# Altium footprint library CornellBajaLibrary.PcbLib: 134 footprints (part 5 of 9)
Each footprint in its own frame and in the unit in brackets; x right, y up, seen from the top. Pads: shape width x height; smd on the part's side, far side on the other; paste and mask are expansions set on the pad; w line width, h text height; cw(c..) or ccw(c..) is an arc to the next point about the centre after c.
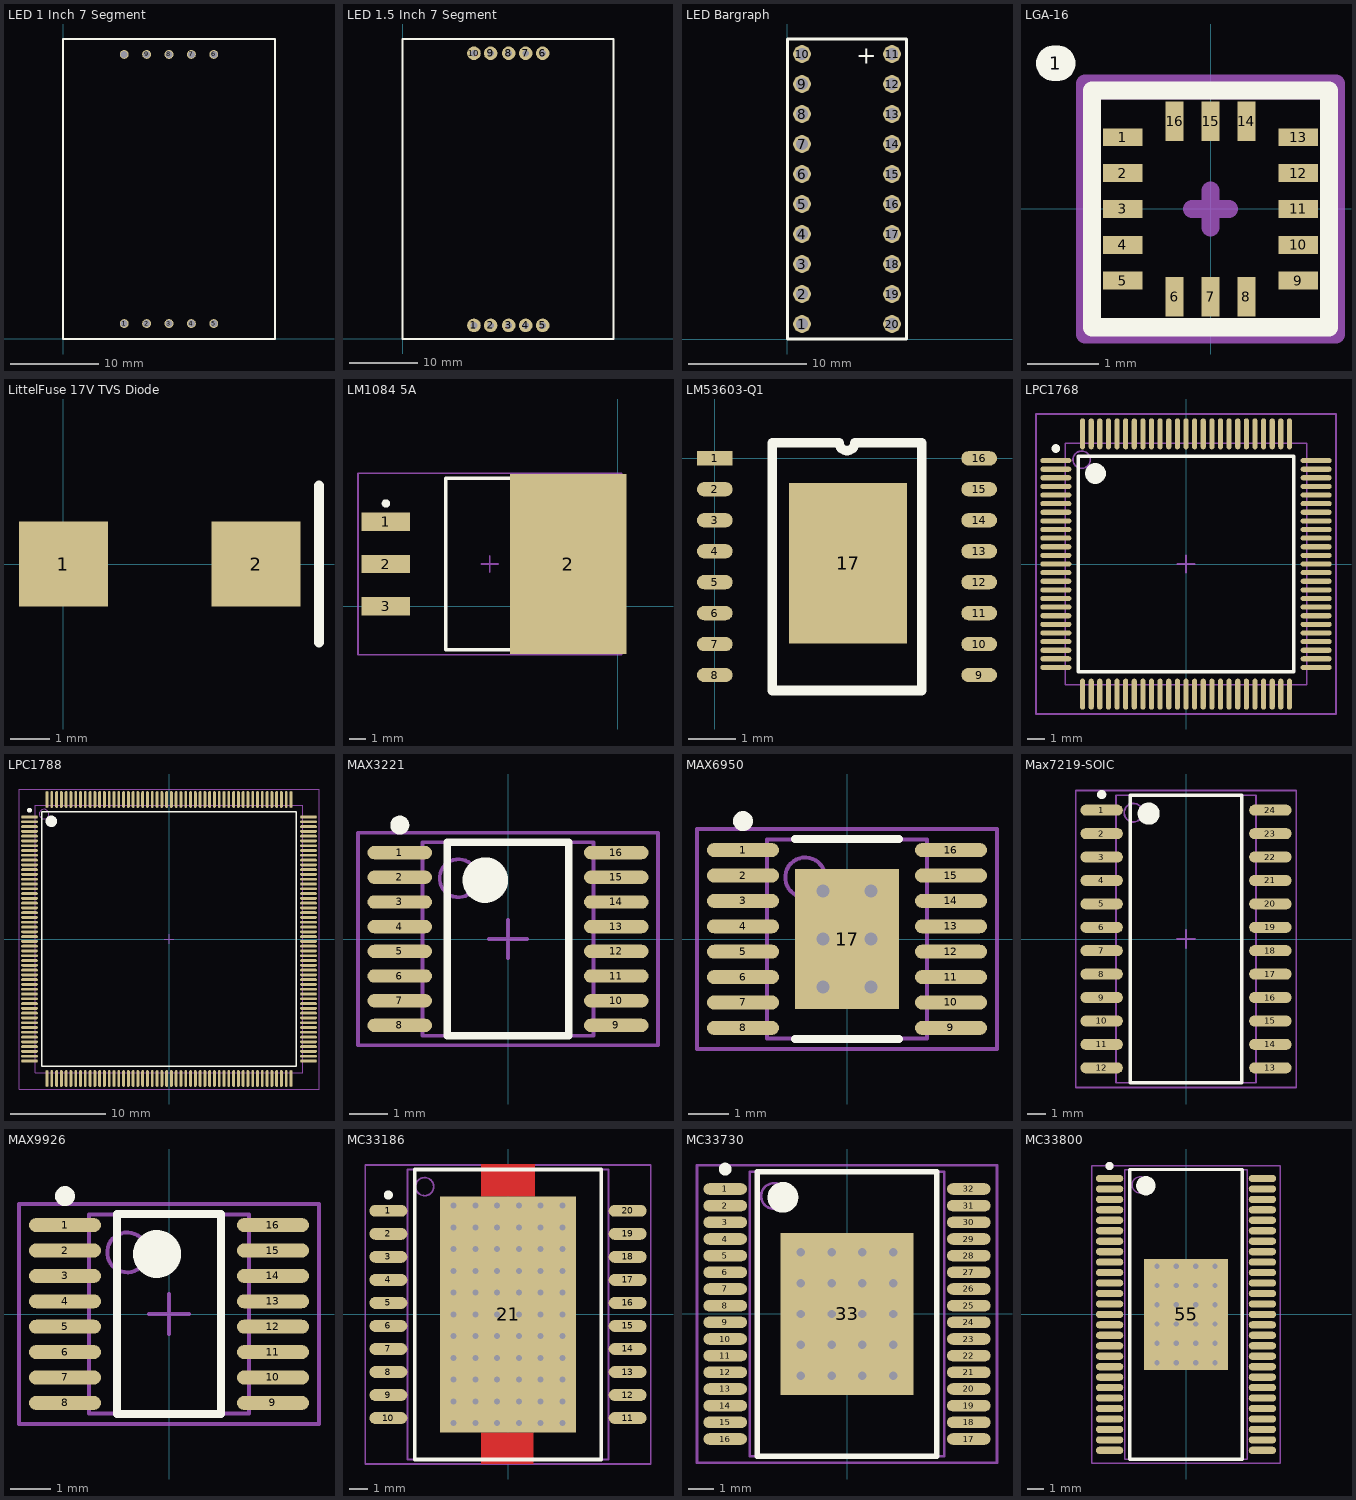
[diagram p4: the footprints below, top view; thin cyan lines are the x and y axes]

## LED 1 Inch 7 Segment [mm]
pads (10):
  round 1 hole 0.8: 1(6.92,1.75) 2(9.46,1.75) 3(12,1.75) 4(14.54,1.75) 5(17.08,1.75) 6(17.08,32.25) 7(14.54,32.25) 8(12,32.25) 9(9.46,32.25) 10(6.92,32.25)
Top Overlay:
  lines w0.254: 0,0 0,34 24,34 24,0 0,0
3D body: height 6.8, standoff 0, extent 0.025,-0.025 24.003,33.96

## LED 1.5 Inch 7 Segment [mm]
pads (10):
  round 2 hole 1: 1(10.5,2) 2(12.95,2) 3(15.6,2) 4(18.1,2) 5(20.6,2) 6(20.6,42) 7(18.1,42) 8(15.6,42) 9(12.95,42) 10(10.5,42)
Top Overlay:
  lines w0.254: 0,0 0,44.1 31,44.1 31,0 0,0
3D body: height 6.8, standoff 0, extent 0,0 31.013,44.094

## LED Bargraph [mm]
pads (20):
  round 1.5 hole 1: 1(1.24,1.27) 2(1.24,3.81) 3(1.24,6.35) 4(1.24,8.89) 5(1.24,11.43) 6(1.24,13.97) 7(1.24,16.51) 8(1.24,19.05) 9(1.24,21.59) 10(1.24,24.13) 11(8.86,24.13) 12(8.86,21.59) 13(8.86,19.05) 14(8.86,16.51) 15(8.86,13.97) 16(8.86,11.43) 17(8.86,8.89) 18(8.86,6.35) 19(8.86,3.81) 20(8.86,1.27)
Top Overlay:
  lines w0.254: 0,0 10.1,0 10.1,25.4 0,25.4 0,0
  text "+" at 5.842,23.317 h1.52
3D body: height 6.8, standoff 0, extent 0,0 10.109,25.4

## LGA-16 [mm]
height 1
pads (17):
  oval 0.55x0.5 on Top Overlay: 1(-2.159,2.032)
  rect 0.55x0.25 smd: 1(-1.225,1) 2(-1.225,0.5) 3(-1.225,0) 4(-1.225,-0.5) 5(-1.225,-1) 9(1.225,-1) 10(1.225,-0.5) 11(1.225,0) 12(1.225,0.5) 13(1.225,1)
  rect 0.25x0.55 smd: 6(-0.5,-1.225) 7(0,-1.225) 8(0.5,-1.225) 14(0.5,1.225) 15(0,1.225) 16(-0.5,1.225)
Top Overlay:
  lines w0.254: -1.651,-1.651 -1.651,1.651 1.651,1.651 1.651,-1.651 -1.651,-1.651
Mechanical 13:
  lines w0.254: -1.651,-1.651 1.651,-1.651 1.651,1.651 -1.651,1.651 -1.651,-1.651
Mechanical 15:
  lines w0.254: -0.254,0 0.254,0 ; 0,-0.254 0,0.254 ; -1.75,-1.75 -1.75,1.75 1.75,1.75 1.75,-1.75 -1.75,-1.75
3D body: height 1, standoff 0, extent -1.65,-1.65 1.65,1.65

## LittelFuse 17V TVS Diode [mm] "DO-214AA"
height 2.6
pads (2):
  rect 2.26x2.16 smd: 1(0,0) 2(4.9,0)
Top Overlay:
  lines w0.254: 6.5,-2 6.5,-1.5 6.5,2
3D body: height 2.5, standoff 0, extent -0.9,-2 5.8,2

## LM1084 5A [mm] "D2-PAK, 4-Pads, Body 8.6x10.3mm (max), IPC Medium Density"
height 4.6
pads (4):
  rect 2.9x1.1 smd: 1(-13.925,5.08) 2(-13.925,2.54) 3(-13.925,0)
  rect 7x10.8 smd: 2(-2.975,2.54)
Top Overlay:
  circle w0.25: c-13.925,6.18 r0.125
  lines w0.2: -6.375,-2.61 -10.325,-2.61 -10.325,7.69 -6.375,7.69
Mechanical 13:
  lines w0.1: -10.325,-2.61 -1.685,-2.61 -1.685,7.69 -10.325,7.69 -10.325,-2.61
Mechanical 15:
  lines w0.1: -8.175,2.54 -7.175,2.54 ; -7.675,2.04 -7.675,3.04 ; -15.6,-2.91 0.25,-2.91 0.25,7.99 -15.6,7.99 -15.6,-2.91
3D body: height 4.6, standoff 0.76, extent -10.325,-2.61 -1.685,7.69

## LM53603-Q1 [mm]
pads (17):
  rect 0.75x0.3 smd: 1(0,0)
  oval 0.75x0.3 smd: 2(0,-0.65) 3(0,-1.3) 4(0,-1.95) 5(0,-2.6) 6(0,-3.25) 7(0,-3.9) 8(0,-4.55) 9(5.55,-4.55) 10(5.55,-3.9) 11(5.55,-3.25) 12(5.55,-2.6) 13(5.55,-1.95) 14(5.55,-1.3) 15(5.55,-0.65) 16(5.55,0)
  rect 2.48x3.37 smd: 17(2.8,-2.2)
Top Overlay:
  lines w0.2: 1.21,-4.875 1.21,0.325 2.612,0.325 ccw(c2.775,0.325) 2.937,0.325 4.34,0.325 4.34,-4.875 1.21,-4.875

## LPC1768 [mm] "TSQFP, 100-Leads, Body 16.3x16.3mm (max), Pitch 0.50mm, IPC Medium Density"
height 1.6
pads (100):
  oval 1.8x0.3 smd: 1(-7.55,6) 2(-7.55,5.5) 3(-7.55,5) 4(-7.55,4.5) 5(-7.55,4) 6(-7.55,3.5) 7(-7.55,3) 8(-7.55,2.5) 9(-7.55,2) 10(-7.55,1.5) 11(-7.55,1) 12(-7.55,0.5) 13(-7.55,0) 14(-7.55,-0.5) 15(-7.55,-1) 16(-7.55,-1.5) 17(-7.55,-2) 18(-7.55,-2.5) 19(-7.55,-3) 20(-7.55,-3.5) 21(-7.55,-4) 22(-7.55,-4.5) 23(-7.55,-5) 24(-7.55,-5.5) 25(-7.55,-6) 51(7.55,-6) 52(7.55,-5.5) 53(7.55,-5) 54(7.55,-4.5) 55(7.55,-4) 56(7.55,-3.5) 57(7.55,-3) 58(7.55,-2.5) 59(7.55,-2) 60(7.55,-1.5) 61(7.55,-1) 62(7.55,-0.5) 63(7.55,0) 64(7.55,0.5) 65(7.55,1) 66(7.55,1.5) 67(7.55,2) 68(7.55,2.5) 69(7.55,3) 70(7.55,3.5) 71(7.55,4) 72(7.55,4.5) 73(7.55,5) 74(7.55,5.5) 75(7.55,6)
  oval 0.3x1.8 smd: 26(-6,-7.55) 27(-5.5,-7.55) 28(-5,-7.55) 29(-4.5,-7.55) 30(-4,-7.55) 31(-3.5,-7.55) 32(-3,-7.55) 33(-2.5,-7.55) 34(-2,-7.55) 35(-1.5,-7.55) 36(-1,-7.55) 37(-0.5,-7.55) 38(0,-7.55) 39(0.5,-7.55) 40(1,-7.55) 41(1.5,-7.55) 42(2,-7.55) 43(2.5,-7.55) 44(3,-7.55) 45(3.5,-7.55) 46(4,-7.55) 47(4.5,-7.55) 48(5,-7.55) 49(5.5,-7.55) 50(6,-7.55) 76(6,7.55) 77(5.5,7.55) 78(5,7.55) 79(4.5,7.55) 80(4,7.55) 81(3.5,7.55) 82(3,7.55) 83(2.5,7.55) 84(2,7.55) 85(1.5,7.55) 86(1,7.55) 87(0.5,7.55) 88(0,7.55) 89(-0.5,7.55) 90(-1,7.55) 91(-1.5,7.55) 92(-2,7.55) 93(-2.5,7.55) 94(-3,7.55) 95(-3.5,7.55) 96(-4,7.55) 97(-4.5,7.55) 98(-5,7.55) 99(-5.5,7.55) 100(-6,7.55)
Top Overlay:
  circle w0.25: c-7.55,6.7 r0.125
  circle w0.6: c-5.25,5.25 r0.3
  lines w0.2: -6.25,-6.25 -6.25,6.25 6.25,6.25 6.25,-6.25 -6.25,-6.25
Mechanical 13:
  circle w0.1: c-6.05,6.05 r0.5
  lines w0.1: -7,-7 -7,7 7,7 7,-7 -7,-7
Mechanical 15:
  lines w0.1: -0.5,0 0.5,0 ; 0,-0.5 0,0.5 ; -8.7,-8.7 -8.7,8.7 8.7,8.7 8.7,-8.7 -8.7,-8.7
3D body: height 1.6, standoff 0.05, extent -7,-7 7,7

## LPC1788 [mm] "TSQFP, 208-Leads, Body 30.1x30.1mm (max), Pitch 0.50mm, IPC Medium Density"
height 1.6
pads (208):
  oval 1.75x0.3 smd: 1(-14.575,12.75) 2(-14.575,12.25) 3(-14.575,11.75) 4(-14.575,11.25) 5(-14.575,10.75) 6(-14.575,10.25) 7(-14.575,9.75) 8(-14.575,9.25) 9(-14.575,8.75) 10(-14.575,8.25) 11(-14.575,7.75) 12(-14.575,7.25) 13(-14.575,6.75) 14(-14.575,6.25) 15(-14.575,5.75) 16(-14.575,5.25) 17(-14.575,4.75) 18(-14.575,4.25) 19(-14.575,3.75) 20(-14.575,3.25) 21(-14.575,2.75) 22(-14.575,2.25) 23(-14.575,1.75) 24(-14.575,1.25) 25(-14.575,0.75) 26(-14.575,0.25) 27(-14.575,-0.25) 28(-14.575,-0.75) 29(-14.575,-1.25) 30(-14.575,-1.75) 31(-14.575,-2.25) 32(-14.575,-2.75) 33(-14.575,-3.25) 34(-14.575,-3.75) 35(-14.575,-4.25) 36(-14.575,-4.75) 37(-14.575,-5.25) 38(-14.575,-5.75) 39(-14.575,-6.25) 40(-14.575,-6.75) 41(-14.575,-7.25) 42(-14.575,-7.75) 43(-14.575,-8.25) 44(-14.575,-8.75) 45(-14.575,-9.25) 46(-14.575,-9.75) 47(-14.575,-10.25) 48(-14.575,-10.75) 49(-14.575,-11.25) 50(-14.575,-11.75) 51(-14.575,-12.25) 52(-14.575,-12.75) 105(14.575,-12.75) 106(14.575,-12.25) 107(14.575,-11.75) 108(14.575,-11.25) 109(14.575,-10.75) 110(14.575,-10.25) 111(14.575,-9.75) 112(14.575,-9.25) 113(14.575,-8.75) 114(14.575,-8.25) 115(14.575,-7.75) 116(14.575,-7.25) 117(14.575,-6.75) 118(14.575,-6.25) 119(14.575,-5.75) 120(14.575,-5.25) 121(14.575,-4.75) 122(14.575,-4.25) 123(14.575,-3.75) 124(14.575,-3.25) 125(14.575,-2.75) 126(14.575,-2.25) 127(14.575,-1.75) 128(14.575,-1.25) 129(14.575,-0.75) 130(14.575,-0.25) 131(14.575,0.25) 132(14.575,0.75) 133(14.575,1.25) 134(14.575,1.75) 135(14.575,2.25) 136(14.575,2.75) 137(14.575,3.25) 138(14.575,3.75) 139(14.575,4.25) 140(14.575,4.75) 141(14.575,5.25) 142(14.575,5.75) 143(14.575,6.25) 144(14.575,6.75) 145(14.575,7.25) 146(14.575,7.75) 147(14.575,8.25) 148(14.575,8.75) 149(14.575,9.25) 150(14.575,9.75) 151(14.575,10.25) 152(14.575,10.75) 153(14.575,11.25) 154(14.575,11.75) 155(14.575,12.25) 156(14.575,12.75)
  oval 0.3x1.75 smd: 53(-12.75,-14.575) 54(-12.25,-14.575) 55(-11.75,-14.575) 56(-11.25,-14.575) 57(-10.75,-14.575) 58(-10.25,-14.575) 59(-9.75,-14.575) 60(-9.25,-14.575) 61(-8.75,-14.575) 62(-8.25,-14.575) 63(-7.75,-14.575) 64(-7.25,-14.575) 65(-6.75,-14.575) 66(-6.25,-14.575) 67(-5.75,-14.575) 68(-5.25,-14.575) 69(-4.75,-14.575) 70(-4.25,-14.575) 71(-3.75,-14.575) 72(-3.25,-14.575) 73(-2.75,-14.575) 74(-2.25,-14.575) 75(-1.75,-14.575) 76(-1.25,-14.575) 77(-0.75,-14.575) 78(-0.25,-14.575) 79(0.25,-14.575) 80(0.75,-14.575) 81(1.25,-14.575) 82(1.75,-14.575) 83(2.25,-14.575) 84(2.75,-14.575) 85(3.25,-14.575) 86(3.75,-14.575) 87(4.25,-14.575) 88(4.75,-14.575) 89(5.25,-14.575) 90(5.75,-14.575) 91(6.25,-14.575) 92(6.75,-14.575) 93(7.25,-14.575) 94(7.75,-14.575) 95(8.25,-14.575) 96(8.75,-14.575) 97(9.25,-14.575) 98(9.75,-14.575) 99(10.25,-14.575) 100(10.75,-14.575) 101(11.25,-14.575) 102(11.75,-14.575) 103(12.25,-14.575) 104(12.75,-14.575) 157(12.75,14.575) 158(12.25,14.575) 159(11.75,14.575) 160(11.25,14.575) 161(10.75,14.575) 162(10.25,14.575) 163(9.75,14.575) 164(9.25,14.575) 165(8.75,14.575) 166(8.25,14.575) 167(7.75,14.575) 168(7.25,14.575) 169(6.75,14.575) 170(6.25,14.575) 171(5.75,14.575) 172(5.25,14.575) 173(4.75,14.575) 174(4.25,14.575) 175(3.75,14.575) 176(3.25,14.575) 177(2.75,14.575) 178(2.25,14.575) 179(1.75,14.575) 180(1.25,14.575) 181(0.75,14.575) 182(0.25,14.575) 183(-0.25,14.575) 184(-0.75,14.575) 185(-1.25,14.575) 186(-1.75,14.575) 187(-2.25,14.575) 188(-2.75,14.575) 189(-3.25,14.575) 190(-3.75,14.575) 191(-4.25,14.575) 192(-4.75,14.575) 193(-5.25,14.575) 194(-5.75,14.575) 195(-6.25,14.575) 196(-6.75,14.575) 197(-7.25,14.575) 198(-7.75,14.575) 199(-8.25,14.575) 200(-8.75,14.575) 201(-9.25,14.575) 202(-9.75,14.575) 203(-10.25,14.575) 204(-10.75,14.575) 205(-11.25,14.575) 206(-11.75,14.575) 207(-12.25,14.575) 208(-12.75,14.575)
Top Overlay:
  circle w0.25: c-14.575,13.45 r0.125
  circle w0.6: c-12.3,12.3 r0.3
  lines w0.2: -13.3,-13.3 -13.3,13.3 13.3,13.3 13.3,-13.3 -13.3,-13.3
Mechanical 13:
  circle w0.1: c-13.05,13.05 r0.5
  lines w0.1: -14,-14 -14,14 14,14 14,-14 -14,-14
Mechanical 15:
  lines w0.1: -0.5,0 0.5,0 ; 0,-0.5 0,0.5 ; -15.675,-15.675 -15.675,15.675 15.675,15.675 15.675,-15.675 -15.675,-15.675
3D body: height 1.6, standoff 0.15, extent -14,-14 14,14

## MAX3221 [mm] "MAX3221"
height 1.2
pads (16):
  oval 1.7x0.35 smd: 1(-2.85,2.275) 2(-2.85,1.625) 3(-2.85,0.975) 4(-2.85,0.325) 5(-2.85,-0.325) 6(-2.85,-0.975) 7(-2.85,-1.625) 8(-2.85,-2.275) 9(2.85,-2.275) 10(2.85,-1.625) 11(2.85,-0.975) 12(2.85,-0.325) 13(2.85,0.325) 14(2.85,0.975) 15(2.85,1.625) 16(2.85,2.275)
Top Overlay:
  circle w0.6: c-0.6,1.55 r0.3
  circle w0.25: c-2.85,3 r0.125
  lines w0.2: -1.6,-2.55 1.6,-2.55 1.6,2.55 -1.6,2.55 -1.6,-2.55
Mechanical 13:
  circle w0.1: c-1.3,1.6 r0.5
  lines w0.1: -2.25,-2.55 2.25,-2.55 2.25,2.55 -2.25,2.55 -2.25,-2.55
Mechanical 15:
  lines w0.1: -0.5,0 0.5,0 ; 0,-0.5 0,0.5 ; -3.95,-2.8 3.95,-2.8 3.95,2.8 -3.95,2.8 -3.95,-2.8
3D body: height 1.2, standoff 0.05, extent -2.25,-2.55 2.25,2.55

## MAX6950 [mm] "SOP, 16-Leads, Body 5.0x4.0mm (max), Pitch 0.63mm, IPC Medium Density"
height 1.73
pads (17):
  oval 1.8x0.35 smd: 1(-2.6,2.222) 2(-2.6,1.587) 3(-2.6,0.953) 4(-2.6,0.318) 5(-2.6,-0.318) 6(-2.6,-0.953) 7(-2.6,-1.587) 8(-2.6,-2.222) 9(2.6,-2.222) 10(2.6,-1.587) 11(2.6,-0.953) 12(2.6,-0.318) 13(2.6,0.318) 14(2.6,0.953) 15(2.6,1.587) 16(2.6,2.222)
  rect 2.6x3.5 smd: 17(0,0)
via -0.6,1.2 diameter 0.66 hole 0.33
via 0.6,1.2 diameter 0.66 hole 0.33
via -0.6,0 diameter 0.66 hole 0.33
via 0.6,0 diameter 0.66 hole 0.33
via -0.6,-1.2 diameter 0.66 hole 0.33
via 0.6,-1.2 diameter 0.66 hole 0.33
Top Overlay:
  circle w0.25: c-2.6,2.947 r0.125
  lines w0.2: -1.3,-2.5 1.3,-2.5 ; -1.3,2.5 1.3,2.5
Mechanical 13:
  circle w0.1: c-1.045,1.54 r0.5
  lines w0.1: -1.995,-2.49 -1.995,2.49 1.995,2.49 1.995,-2.49 -1.995,-2.49
Mechanical 15:
  lines w0.1: -0.5,0 0.5,0 ; 0,-0.5 0,0.5 ; -3.75,-2.75 -3.75,2.75 3.75,2.75 3.75,-2.75 -3.75,-2.75
3D body: height 1.73, standoff 0.25, extent -1.995,-2.49 1.995,2.49

## Max7219-SOIC [mm] "SOIC, 24-Leads, Body 15.6x7.6mm (max), Pitch 1.27mm, IPC Medium Density"
height 2.65
pads (24):
  oval 2.3x0.6 smd: 1(-4.575,6.985) 2(-4.575,5.715) 3(-4.575,4.445) 4(-4.575,3.175) 5(-4.575,1.905) 6(-4.575,0.635) 7(-4.575,-0.635) 8(-4.575,-1.905) 9(-4.575,-3.175) 10(-4.575,-4.445) 11(-4.575,-5.715) 12(-4.575,-6.985) 13(4.575,-6.985) 14(4.575,-5.715) 15(4.575,-4.445) 16(4.575,-3.175) 17(4.575,-1.905) 18(4.575,-0.635) 19(4.575,0.635) 20(4.575,1.905) 21(4.575,3.175) 22(4.575,4.445) 23(4.575,5.715) 24(4.575,6.985)
Top Overlay:
  circle w0.6: c-2.025,6.8 r0.3
  circle w0.25: c-4.575,7.835 r0.125
  lines w0.2: -3.025,-7.8 3.025,-7.8 3.025,7.8 -3.025,7.8 -3.025,-7.8
Mechanical 13:
  circle w0.1: c-2.85,6.85 r0.5
  lines w0.1: -3.8,-7.8 3.8,-7.8 3.8,7.8 -3.8,7.8 -3.8,-7.8
Mechanical 15:
  lines w0.1: -0.5,0 0.5,0 ; 0,-0.5 0,0.5 ; -5.975,-8.05 5.975,-8.05 5.975,8.05 -5.975,8.05 -5.975,-8.05
3D body: height 2.65, standoff 0.1, extent -3.8,-7.8 3.8,7.8

## MAX9926 [mm] "SOP, 16-Leads, Body 5.0x4.0mm (max), Pitch 0.63mm, IPC Medium Density"
height 1.75
pads (16):
  oval 1.8x0.35 smd: 1(-2.6,2.222) 2(-2.6,1.587) 3(-2.6,0.953) 4(-2.6,0.318) 5(-2.6,-0.318) 6(-2.6,-0.953) 7(-2.6,-1.587) 8(-2.6,-2.222) 9(2.6,-2.222) 10(2.6,-1.587) 11(2.6,-0.953) 12(2.6,-0.318) 13(2.6,0.318) 14(2.6,0.953) 15(2.6,1.587) 16(2.6,2.222)
Top Overlay:
  circle w0.6: c-0.3,1.5 r0.3
  circle w0.25: c-2.6,2.947 r0.125
  lines w0.2: -1.3,-2.5 1.3,-2.5 1.3,2.5 -1.3,2.5 -1.3,-2.5
Mechanical 13:
  circle w0.1: c-1.045,1.54 r0.5
  lines w0.1: -1.995,-2.49 1.995,-2.49 1.995,2.49 -1.995,2.49 -1.995,-2.49
Mechanical 15:
  lines w0.1: -0.5,0 0.5,0 ; 0,-0.5 0,0.5 ; -3.75,-2.75 3.75,-2.75 3.75,2.75 -3.75,2.75 -3.75,-2.75
3D body: height 1.75, standoff 0.1, extent -1.995,-2.49 1.995,2.49

## MC33186 [mm] "SOP, 20-Leads, Body 16.0x11.1mm (max), Pitch 1.27mm, IPC Medium Density"
height 3.4
pads (21):
  oval 2.1x0.65 smd: 1(-6.6,5.715) 2(-6.6,4.445) 3(-6.6,3.175) 4(-6.6,1.905) 5(-6.6,0.635) 6(-6.6,-0.635) 7(-6.6,-1.905) 8(-6.6,-3.175) 9(-6.6,-4.445) 10(-6.6,-5.715) 11(6.6,-5.715) 12(6.6,-4.445) 13(6.6,-3.175) 14(6.6,-1.905) 15(6.6,-0.635) 16(6.6,0.635) 17(6.6,1.905) 18(6.6,3.175) 19(6.6,4.445) 20(6.6,5.715)
  rect 7.5x13 smd: 21(0,0)
via 3,-6 diameter 0.66 hole 0.33
via 1.8,-6 diameter 0.66 hole 0.33
via 0.6,-6 diameter 0.66 hole 0.33
via -0.6,-6 diameter 0.66 hole 0.33
via -1.8,-6 diameter 0.66 hole 0.33
via -3,-6 diameter 0.66 hole 0.33
via 3,-4.8 diameter 0.66 hole 0.33
via 1.8,-4.8 diameter 0.66 hole 0.33
via 0.6,-4.8 diameter 0.66 hole 0.33
via -0.6,-4.8 diameter 0.66 hole 0.33
via -1.8,-4.8 diameter 0.66 hole 0.33
via -3,-4.8 diameter 0.66 hole 0.33
via 3,-3.6 diameter 0.66 hole 0.33
via 1.8,-3.6 diameter 0.66 hole 0.33
via 0.6,-3.6 diameter 0.66 hole 0.33
via -0.6,-3.6 diameter 0.66 hole 0.33
via -1.8,-3.6 diameter 0.66 hole 0.33
via -3,-3.6 diameter 0.66 hole 0.33
via 3,-2.4 diameter 0.66 hole 0.33
via 1.8,-2.4 diameter 0.66 hole 0.33
via 0.6,-2.4 diameter 0.66 hole 0.33
via -0.6,-2.4 diameter 0.66 hole 0.33
via -1.8,-2.4 diameter 0.66 hole 0.33
via -3,-2.4 diameter 0.66 hole 0.33
via 3,-1.2 diameter 0.66 hole 0.33
via 1.8,-1.2 diameter 0.66 hole 0.33
via 0.6,-1.2 diameter 0.66 hole 0.33
via -0.6,-1.2 diameter 0.66 hole 0.33
via -1.8,-1.2 diameter 0.66 hole 0.33
via -3,-1.2 diameter 0.66 hole 0.33
via 3,0 diameter 0.66 hole 0.33
via 1.8,0 diameter 0.66 hole 0.33
via 0.6,0 diameter 0.66 hole 0.33
via -0.6,0 diameter 0.66 hole 0.33
via -1.8,0 diameter 0.66 hole 0.33
via -3,0 diameter 0.66 hole 0.33
via 3,1.2 diameter 0.66 hole 0.33
via 1.8,1.2 diameter 0.66 hole 0.33
via 0.6,1.2 diameter 0.66 hole 0.33
via -0.6,1.2 diameter 0.66 hole 0.33
via -1.8,1.2 diameter 0.66 hole 0.33
via -3,1.2 diameter 0.66 hole 0.33
via 3,2.4 diameter 0.66 hole 0.33
via 1.8,2.4 diameter 0.66 hole 0.33
via 0.6,2.4 diameter 0.66 hole 0.33
via -0.6,2.4 diameter 0.66 hole 0.33
via -1.8,2.4 diameter 0.66 hole 0.33
via -3,2.4 diameter 0.66 hole 0.33
via 3,3.6 diameter 0.66 hole 0.33
via 1.8,3.6 diameter 0.66 hole 0.33
via 0.6,3.6 diameter 0.66 hole 0.33
via -0.6,3.6 diameter 0.66 hole 0.33
via -1.8,3.6 diameter 0.66 hole 0.33
via -3,3.6 diameter 0.66 hole 0.33
via 3,4.8 diameter 0.66 hole 0.33
via 1.8,4.8 diameter 0.66 hole 0.33
via 0.6,4.8 diameter 0.66 hole 0.33
via -0.6,4.8 diameter 0.66 hole 0.33
via -1.8,4.8 diameter 0.66 hole 0.33
via -3,4.8 diameter 0.66 hole 0.33
via 3,6 diameter 0.66 hole 0.33
via 1.8,6 diameter 0.66 hole 0.33
via 0.6,6 diameter 0.66 hole 0.33
via -0.6,6 diameter 0.66 hole 0.33
via -1.8,6 diameter 0.66 hole 0.33
via -3,6 diameter 0.66 hole 0.33
Top Layer:
  rectangle: -1.5,-8.25 1.4,-6.5
  rectangle: -1.5,6.5 1.5,8.3
Top Overlay:
  circle w0.25: c-6.6,6.59 r0.125
  lines w0.2: -5.15,-8 5.15,-8 5.15,8 -5.15,8 -5.15,-8
Mechanical 13:
  circle w0.1: c-4.6,7.05 r0.5
  lines w0.1: -5.55,-8 5.55,-8 5.55,8 -5.55,8 -5.55,-8
Mechanical 15:
  lines w0.1: -0.5,0 0.5,0 ; 0,-0.5 0,0.5 ; -7.875,-8.25 7.875,-8.25 7.875,8.25 -7.875,8.25 -7.875,-8.25
3D body: height 3.4, standoff 0, extent -5.55,-8 5.55,8

## MC33730 [mm] "SOP, 32-Leads, Body 11.1x7.6mm (max), Pitch 0.65mm, IPC Medium Density"
height 2.65
pads (33):
  oval 1.7x0.45 smd: 1(-4.75,4.875) 2(-4.75,4.225) 3(-4.75,3.575) 4(-4.75,2.925) 5(-4.75,2.275) 6(-4.75,1.625) 7(-4.75,0.975) 8(-4.75,0.325) 9(-4.75,-0.325) 10(-4.75,-0.975) 11(-4.75,-1.625) 12(-4.75,-2.275) 13(-4.75,-2.925) 14(-4.75,-3.575) 15(-4.75,-4.225) 16(-4.75,-4.875) 17(4.75,-4.875) 18(4.75,-4.225) 19(4.75,-3.575) 20(4.75,-2.925) 21(4.75,-2.275) 22(4.75,-1.625) 23(4.75,-0.975) 24(4.75,-0.325) 25(4.75,0.325) 26(4.75,0.975) 27(4.75,1.625) 28(4.75,2.275) 29(4.75,2.925) 30(4.75,3.575) 31(4.75,4.225) 32(4.75,4.875)
  rect 5.2x6.3 smd: 33(0,0)
via -1.8,2.4 diameter 0.66 hole 0.33
via -0.6,2.4 diameter 0.66 hole 0.33
via 0.6,2.4 diameter 0.66 hole 0.33
via 1.8,2.4 diameter 0.66 hole 0.33
via -1.8,1.2 diameter 0.66 hole 0.33
via -0.6,1.2 diameter 0.66 hole 0.33
via 0.6,1.2 diameter 0.66 hole 0.33
via 1.8,1.2 diameter 0.66 hole 0.33
via -1.8,0 diameter 0.66 hole 0.33
via -0.6,0 diameter 0.66 hole 0.33
via 0.6,0 diameter 0.66 hole 0.33
via 1.8,0 diameter 0.66 hole 0.33
via -1.8,-1.2 diameter 0.66 hole 0.33
via -0.6,-1.2 diameter 0.66 hole 0.33
via 0.6,-1.2 diameter 0.66 hole 0.33
via 1.8,-1.2 diameter 0.66 hole 0.33
via -1.8,-2.4 diameter 0.66 hole 0.33
via -0.6,-2.4 diameter 0.66 hole 0.33
via 0.6,-2.4 diameter 0.66 hole 0.33
via 1.8,-2.4 diameter 0.66 hole 0.33
Top Overlay:
  circle w0.25: c-4.75,5.65 r0.125
  circle w0.6: c-2.5,4.55 r0.3
  lines w0.2: -3.5,-5.55 -3.5,5.55 3.5,5.55 3.5,-5.55 -3.5,-5.55
Mechanical 13:
  circle w0.1: c-2.85,4.6 r0.5
  lines w0.1: -3.8,-5.55 -3.8,5.55 3.8,5.55 3.8,-5.55 -3.8,-5.55
Mechanical 15:
  lines w0.1: -0.5,0 0.5,0 ; 0,-0.5 0,0.5 ; -5.85,-5.8 -5.85,5.8 5.85,5.8 5.85,-5.8 -5.85,-5.8
3D body: height 2.65, standoff 0, extent -3.8,-5.55 3.8,5.55

## MC33800 [mm] "SOP, 54-Leads, Body 18.0x7.6mm (max), Pitch 0.65mm, IPC Medium Density"
height 2.45
pads (55):
  oval 1.7x0.45 smd: 1(-4.75,8.45) 2(-4.75,7.8) 3(-4.75,7.15) 4(-4.75,6.5) 5(-4.75,5.85) 6(-4.75,5.2) 7(-4.75,4.55) 8(-4.75,3.9) 9(-4.75,3.25) 10(-4.75,2.6) 11(-4.75,1.95) 12(-4.75,1.3) 13(-4.75,0.65) 14(-4.75,0) 15(-4.75,-0.65) 16(-4.75,-1.3) 17(-4.75,-1.95) 18(-4.75,-2.6) 19(-4.75,-3.25) 20(-4.75,-3.9) 21(-4.75,-4.55) 22(-4.75,-5.2) 23(-4.75,-5.85) 24(-4.75,-6.5) 25(-4.75,-7.15) 26(-4.75,-7.8) 27(-4.75,-8.45) 28(4.75,-8.45) 29(4.75,-7.8) 30(4.75,-7.15) 31(4.75,-6.5) 32(4.75,-5.85) 33(4.75,-5.2) 34(4.75,-4.55) 35(4.75,-3.9) 36(4.75,-3.25) 37(4.75,-2.6) 38(4.75,-1.95) 39(4.75,-1.3) 40(4.75,-0.65) 41(4.75,0) 42(4.75,0.65) 43(4.75,1.3) 44(4.75,1.95) 45(4.75,2.6) 46(4.75,3.25) 47(4.75,3.9) 48(4.75,4.55) 49(4.75,5.2) 50(4.75,5.85) 51(4.75,6.5) 52(4.75,7.15) 53(4.75,7.8) 54(4.75,8.45)
  rect 5.2x6.9 smd: 55(0,0)
via -1.8,3 diameter 0.66 hole 0.33
via -0.6,3 diameter 0.66 hole 0.33
via 0.6,3 diameter 0.66 hole 0.33
via 1.8,3 diameter 0.66 hole 0.33
via -1.8,1.8 diameter 0.66 hole 0.33
via -0.6,1.8 diameter 0.66 hole 0.33
via 0.6,1.8 diameter 0.66 hole 0.33
via 1.8,1.8 diameter 0.66 hole 0.33
via -1.8,0.6 diameter 0.66 hole 0.33
via -0.6,0.6 diameter 0.66 hole 0.33
via 0.6,0.6 diameter 0.66 hole 0.33
via 1.8,0.6 diameter 0.66 hole 0.33
via -1.8,-0.6 diameter 0.66 hole 0.33
via -0.6,-0.6 diameter 0.66 hole 0.33
via 0.6,-0.6 diameter 0.66 hole 0.33
via 1.8,-0.6 diameter 0.66 hole 0.33
via -1.8,-1.8 diameter 0.66 hole 0.33
via -0.6,-1.8 diameter 0.66 hole 0.33
via 0.6,-1.8 diameter 0.66 hole 0.33
via 1.8,-1.8 diameter 0.66 hole 0.33
via -1.8,-3 diameter 0.66 hole 0.33
via -0.6,-3 diameter 0.66 hole 0.33
via 0.6,-3 diameter 0.66 hole 0.33
via 1.8,-3 diameter 0.66 hole 0.33
Top Overlay:
  circle w0.25: c-4.75,9.225 r0.125
  circle w0.6: c-2.5,8 r0.3
  lines w0.2: -3.5,-9 -3.5,9 3.5,9 3.5,-9 -3.5,-9
Mechanical 13:
  circle w0.1: c-2.85,8.05 r0.5
  lines w0.1: -3.8,-9 -3.8,9 3.8,9 3.8,-9 -3.8,-9
Mechanical 15:
  lines w0.1: -0.5,0 0.5,0 ; 0,-0.5 0,0.5 ; -5.85,-9.25 -5.85,9.25 5.85,9.25 5.85,-9.25 -5.85,-9.25
3D body: height 2.45, standoff 0, extent -3.8,-9 3.8,9